# Altium footprint library 数码管.PcbLib: 57 footprints (part 4 of 4)
Each footprint in its own frame and in the unit in brackets; x right, y up, seen from the top. Pads: shape width x height; smd on the part's side, far side on the other; paste and mask are expansions set on the pad; w line width, h text height; cw(c..) or ccw(c..) is an arc to the next point about the centre after c.
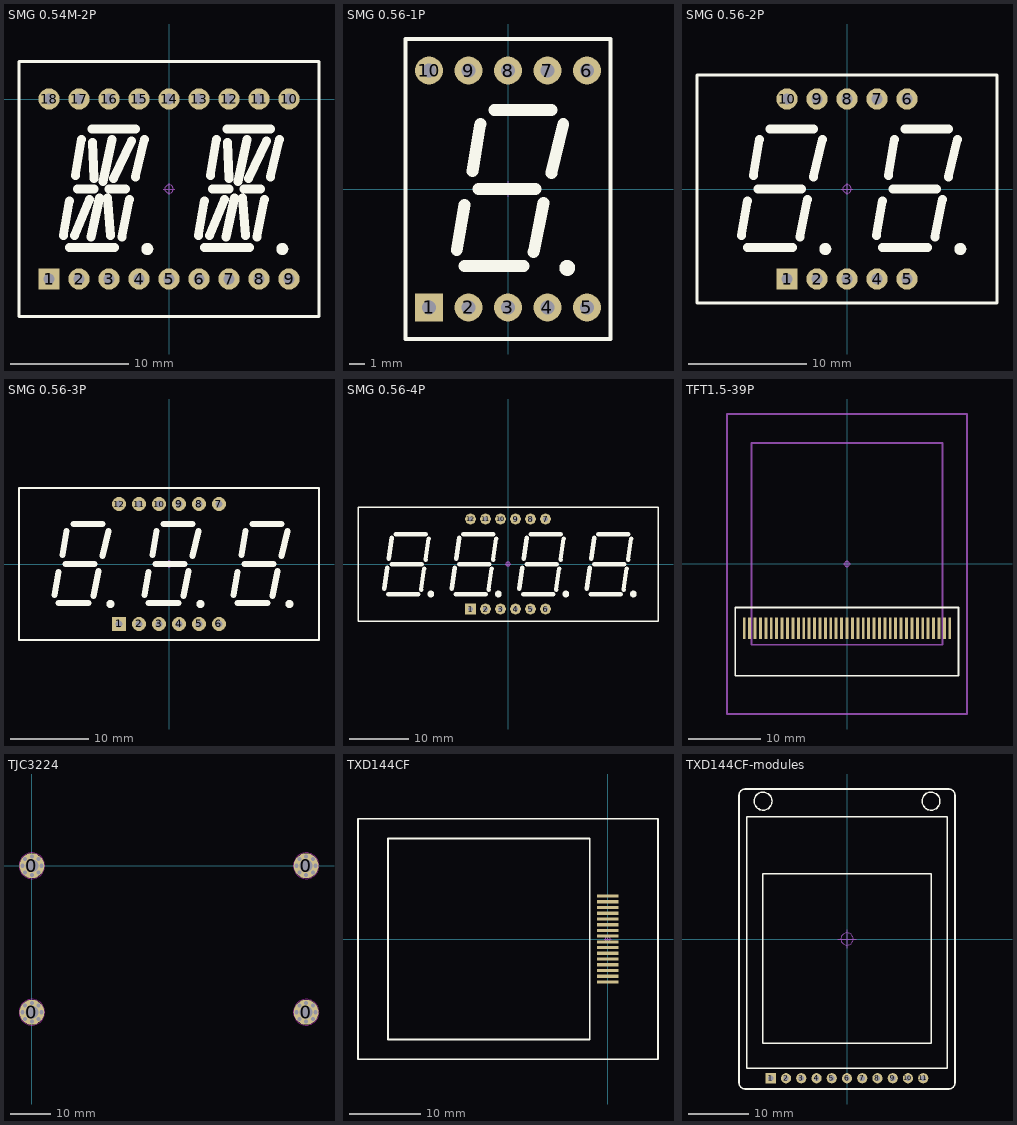
[diagram p3: the footprints below, top view; thin cyan lines are the x and y axes]

## SMG 0.54M-2P [mm] "25*21.2*8mm(长宽厚)"
pads (18):
  rect 1.8x1.8 hole 0.9: 1(-10.16,-15.24)
  round 1.8 hole 0.9: 2(-7.62,-15.24) 3(-5.08,-15.24) 4(-2.54,-15.24) 5(0,-15.24) 6(2.54,-15.24) 7(5.08,-15.24) 8(7.62,-15.24) 9(10.16,-15.24) 10(10.16,0)
  round 1.8 hole 0.9 unplated: 11(7.62,0) 12(5.08,0) 13(2.54,0) 14(0,0) 15(-2.54,0) 16(-5.08,0) 17(-7.62,0) 18(-10.16,0)
Top Overlay:
  circle w0.508: c9.588,-12.7 r0.254
  circle w0.508: c-1.841,-12.7 r0.254
  lines w0.254: -12.7,-18.415 12.7,-18.415 12.7,3.175 -12.7,3.175 -12.7,-18.415
  lines w0.762: -8.954,-11.557 -8.445,-8.636 ; -8.445,-12.573 -4.635,-12.573 ; -8.001,-11.557 -6.731,-8.509 ; -7.938,-6.477 -7.429,-3.429 ; -7.747,-7.62 -6.35,-7.62 ; -6.604,-11.684 -5.894,-8.371 ; -6.54,-2.54 -2.857,-2.54 ; -6.477,-3.683 -6.35,-6.731 ; -5.588,-6.985 -4.826,-3.429 ; -5.207,-8.382 -4.953,-11.557 ; -5.08,-7.62 -3.683,-7.62 ; -4.699,-6.731 -3.175,-3.556 ; -4,-11.684 -3.365,-8.509 ; -2.857,-6.604 -2.095,-3.429 ; 2.476,-11.557 2.984,-8.636 ; 2.984,-12.573 6.794,-12.573 ; 3.429,-11.557 4.699,-8.509 ; 3.492,-6.477 4,-3.429 ; 3.683,-7.62 5.08,-7.62 ; 4.826,-11.684 5.536,-8.371 ; 4.889,-2.54 8.572,-2.54 ; 4.953,-3.683 5.08,-6.731 ; 5.842,-6.985 6.604,-3.429 ; 6.223,-8.382 6.477,-11.557 ; 6.35,-7.62 7.747,-7.62 ; 6.731,-6.731 8.255,-3.556 ; 7.429,-11.684 8.064,-8.509 ; 8.572,-6.604 9.335,-3.429
Mechanical 15:
  circle w0.05: c0,-7.62 r0.35
  lines w0.05: -0.5,-7.62 0.5,-7.62 ; 0,-8.12 0,-7.12
3D body "SMG 0.54M-2P.STEP": height 8.2, standoff -3, extent -12.5,-18.22 12.5,2.98

## SMG 0.56-1P [mm] "12.7*19*8mm(长宽厚)"
pads (10):
  rect 1.8x1.8 hole 0.9: 1(-5.08,-7.62)
  round 1.8 hole 0.9: 2(-2.54,-7.62) 3(0,-7.62) 4(2.54,-7.62) 5(5.08,-7.62) 6(5.08,7.62) 7(2.54,7.62) 8(0,7.62) 9(-2.54,7.62) 10(-5.08,7.62)
Top Overlay:
  circle w0.508: c3.81,-5.08 r0.254
  lines w0.254: -6.604,-9.652 -6.604,9.652 6.604,9.652 6.604,-9.652 -6.604,-9.652
  lines w0.762: -3.302,-3.937 -2.794,-1.016 ; -2.794,-4.953 1.016,-4.953 ; -2.286,1.143 -1.778,4.191 ; -1.905,0 1.778,0 ; -0.889,5.08 2.794,5.08 ; 1.651,-4.064 2.286,-0.889 ; 2.794,1.016 3.556,4.191
Mechanical 15:
  circle w0.05: c0,0 r0.35
  lines w0.05: -0.5,0 0.5,0 ; 0,-0.5 0,0.5
3D body "SMG 0.56-1P.STEP": height 8, standoff -3.6, extent -6.3,-9.5 6.3,9.5

## SMG 0.56-2P [mm] "25*19*8mm(长宽厚)"
pads (10):
  rect 1.8x1.8 hole 0.9: 1(-5.08,-7.62)
  round 1.8 hole 0.9: 2(-2.54,-7.62) 3(0,-7.62) 4(2.54,-7.62) 5(5.08,-7.62) 6(5.08,7.62) 7(2.54,7.62) 8(0,7.62) 9(-2.54,7.62) 10(-5.08,7.62)
Top Overlay:
  circle w0.508: c9.588,-5.08 r0.254
  circle w0.508: c-1.841,-5.08 r0.254
  lines w0.254: -12.7,-9.652 12.7,-9.652 12.7,9.652 -12.7,9.652 -12.7,-9.652
  lines w0.762: -8.954,-3.937 -8.445,-1.016 ; -8.445,-4.953 -4.635,-4.953 ; -7.938,1.143 -7.429,4.191 ; -7.556,0 -3.873,0 ; -6.54,5.08 -2.857,5.08 ; -4,-4.064 -3.365,-0.889 ; -2.857,1.016 -2.095,4.191 ; 2.476,-3.937 2.984,-1.016 ; 2.984,-4.953 6.794,-4.953 ; 3.492,1.143 4,4.191 ; 3.873,0 7.556,0 ; 4.889,5.08 8.572,5.08 ; 7.429,-4.064 8.064,-0.889 ; 8.572,1.016 9.335,4.191
Mechanical 15:
  circle w0.05: c0,0 r0.35
  lines w0.05: -0.5,0 0.5,0 ; 0,-0.5 0,0.5
3D body "SMG 0.56-2P.STEP": height 8, standoff -3.6, extent -12.5,-9.5 12.5,9.5

## SMG 0.56-3P [mm] "37.6*19*8mm(长宽厚)"
pads (12):
  rect 1.8x1.8 hole 0.9: 1(-6.35,-7.62)
  round 1.8 hole 0.9: 2(-3.81,-7.62) 3(-1.27,-7.62) 4(1.27,-7.62) 5(3.81,-7.62) 6(6.35,-7.62) 7(6.35,7.62) 8(3.81,7.62) 9(1.27,7.62) 10(-1.27,7.62) 11(-3.81,7.62) 12(-6.35,7.62)
Top Overlay:
  circle w0.508: c4,-5.08 r0.254
  circle w0.508: c-7.429,-5.08 r0.254
  circle w0.508: c15.303,-5.08 r0.254
  lines w0.254: -19.05,-9.652 19.05,-9.652 19.05,9.652 -19.05,9.652 -19.05,-9.652
  lines w0.762: -14.541,-3.937 -14.034,-1.016 ; -14.034,-4.953 -10.223,-4.953 ; -13.525,1.143 -13.018,4.191 ; -13.144,0 -9.461,0 ; -12.128,5.08 -8.445,5.08 ; -9.588,-4.064 -8.954,-0.889 ; -8.445,1.016 -7.683,4.191 ; -3.111,-3.937 -2.603,-1.016 ; -2.603,-4.953 1.206,-4.953 ; -2.095,1.143 -1.587,4.191 ; -1.714,0 1.968,0 ; -0.699,5.08 2.984,5.08 ; 1.841,-4.064 2.476,-0.889 ; 2.984,1.016 3.746,4.191 ; 8.191,-3.937 8.7,-1.016 ; 8.7,-4.953 12.509,-4.953 ; 9.207,1.143 9.716,4.191 ; 9.588,0 13.271,0 ; 10.604,5.08 14.287,5.08 ; 13.144,-4.064 13.779,-0.889 ; 14.287,1.016 15.05,4.191
Mechanical 15:
  circle w0.05: c0,0 r0.35
  lines w0.05: -0.5,0 0.5,0 ; 0,-0.5 0,0.5
3D body "SMG 0.56-3P.STEP": height 8, standoff -3.6, extent -18.8,-9.5 18.8,9.5

## SMG 0.56-4P [mm] "4位0.56寸数码管，50.3*19mm"
pads (12):
  rect 1.8x1.8 hole 0.9: 1(-6.35,-7.62)
  round 1.8 hole 0.9: 2(-3.81,-7.62) 3(-1.27,-7.62) 4(1.27,-7.62) 5(3.81,-7.62) 6(6.35,-7.62) 7(6.35,7.62) 8(3.81,7.62) 9(1.27,7.62) 10(-1.27,7.62) 11(-3.81,7.62) 12(-6.35,7.62)
Top Overlay:
  circle w0.635: c-13.081,-5.08 r0.254
  circle w0.635: c-1.651,-5.08 r0.254
  circle w0.635: c9.779,-5.08 r0.254
  circle w0.635: c21.209,-5.08 r0.254
  lines w0.254: -25.4,-9.652 25.4,-9.652 25.4,9.652 -25.4,9.652 -25.4,-9.652
  lines w0.762: -20.955,-4.191 -20.447,-0.635 ; -20.32,-5.08 -15.24,-5.08 ; -20.193,0.889 -19.685,4.445 ; -19.685,0 -14.605,0 ; -19.05,5.08 -13.97,5.08 ; -14.732,-4.318 -14.224,-0.762 ; -13.97,0.762 -13.462,4.318 ; -9.525,-4.191 -9.017,-0.635 ; -8.89,-5.08 -3.81,-5.08 ; -8.763,0.889 -8.255,4.445 ; -8.255,0 -3.175,0 ; -7.62,5.08 -2.54,5.08 ; -3.302,-4.318 -2.794,-0.762 ; -2.54,0.762 -2.032,4.318 ; 1.905,-4.191 2.413,-0.635 ; 2.54,-5.08 7.62,-5.08 ; 2.667,0.889 3.175,4.445 ; 3.175,0 8.255,0 ; 3.81,5.08 8.89,5.08 ; 8.128,-4.318 8.636,-0.762 ; 8.89,0.762 9.398,4.318 ; 13.335,-4.191 13.843,-0.635 ; 13.97,-5.08 19.05,-5.08 ; 14.097,0.889 14.605,4.445 ; 14.605,0 19.685,0 ; 15.24,5.08 20.32,5.08 ; 19.558,-4.318 20.066,-0.762 ; 20.32,0.762 20.828,4.318
Mechanical 15:
  circle w0.05: c0,0 r0.35
  lines w0.05: -0.5,0 0.5,0 ; 0,-0.5 0,0.5
3D body "SMG 0.56-4P.STEP": height 8, standoff -3.6, extent -25.15,-9.5 25.15,9.5

## TFT1.5-39P [mm] "长41.6mm，宽33.4mm，厚2.7mm，脚距0.75mm"
pads (39):
  rect 0.4x3 smd: 1(-14.25,-8.89) 2(-13.5,-8.89) 3(-12.75,-8.89) 4(-12,-8.89) 5(-11.25,-8.89) 6(-10.5,-8.89) 7(-9.75,-8.89) 8(-9,-8.89) 9(-8.25,-8.89) 10(-7.5,-8.89) 11(-6.75,-8.89) 12(-6,-8.89) 13(-5.25,-8.89) 14(-4.5,-8.89) 15(-3.75,-8.89) 16(-3,-8.89) 17(-2.25,-8.89) 18(-1.5,-8.89) 19(-0.75,-8.89) 20(0,-8.89) 21(0.75,-8.89) 22(1.5,-8.89) 23(2.25,-8.89) 24(3,-8.89) 25(3.75,-8.89) 26(4.5,-8.89) 27(5.25,-8.89) 28(6,-8.89) 29(6.75,-8.89) 30(7.5,-8.89) 31(8.25,-8.89) 32(9,-8.89) 33(9.75,-8.89) 34(10.5,-8.89) 35(11.25,-8.89) 36(12,-8.89) 37(12.75,-8.89) 38(13.5,-8.89) 39(14.25,-8.89)
Top Overlay:
  lines w0.254: -15.495,-15.5 15.468,-15.5 15.468,-6.05 -15.495,-6.05 -15.495,-15.5
Mechanical 15:
  circle w0.05: c0,0 r0.35
  lines w0.05: -0.5,0 0.5,0 ; 0,-0.5 0,0.5
  lines w0.254: -16.65,-20.8 16.65,-20.8 16.65,20.8 -16.65,20.8 -16.65,-20.8 ; -13.25,-11.2 -13.25,7.7 -13.25,16.8 13.25,16.8 13.25,-11.2 -13.25,-11.2
3D body "TFT1.5-39P.STEP": height 6.65, standoff 0, extent -16.65,-20.884 16.65,20.85

## TJC3224 [mm]
pads (36):
  round 1 hole 1: 0(-2.35,-36.49) 0(-2.35,0) 0(-1.662,-38.152) 0(-1.662,-34.828) 0(-1.662,-1.662) 0(-1.662,1.662) 0(0,-38.84) 0(0,-34.14) 0(0,-2.35) 0(0,2.35) 0(1.662,-38.152) 0(1.662,-34.828) 0(1.662,-1.662) 0(1.662,1.662) 0(2.35,-36.49) 0(2.35,0) 0(65.97,-36.49) 0(65.97,0) 0(66.658,-38.152) 0(66.658,-34.828) 0(66.658,-1.662) 0(66.658,1.662) 0(68.32,-38.84) 0(68.32,-34.14) 0(68.32,-2.35) 0(68.32,2.35) 0(69.982,-38.152) 0(69.982,-34.828) 0(69.982,-1.662) 0(69.982,1.662) 0(70.67,-36.49) 0(70.67,0)
  round 6.2 hole 3.2: 0(0,-36.49) 0(0,0) 0(68.32,-36.49) 0(68.32,0)
Keep-Out Layer:
  circle w0.254: c0,0 r3.2
  circle w0.254: c68.32,0 r3.2
  circle w0.254: c68.32,-36.49 r3.2
  circle w0.254: c0,-36.49 r3.2
Mechanical 15:
  circle w0.05: c0,0 r0.35
  lines w0.05: -0.5,0 0.5,0 ; 0,-0.5 0,0.5
3D body "TJC3224.stp": height 15.8, standoff 0, extent -3.023,-39.573 71.377,3.147

## TXD144CF [mm] "16Pin, 1.44寸，128*128"
pads (16):
  rect 3x0.45 smd: 1(0,6) 2(0,5.2) 3(0,4.4) 4(0,3.6) 5(0,2.8) 6(0,2) 7(0,1.2) 8(0,0.4) 9(0,-0.4) 10(0,-1.2) 11(0,-2) 12(0,-2.8) 13(0,-3.6) 14(0,-4.4) 15(0,-5.2) 16(0,-6)
Top Overlay:
  lines w0.254: -34.917,-16.8 -34.917,16.8 7.023,16.8 7.023,-16.8 -34.917,-16.8 ; -30.717,-14.05 -2.517,-14.05 -2.517,14.05 -30.717,14.05 -30.717,-14.05
Mechanical 15:
  circle w0.05: c0,0 r0.35
  lines w0.05: -0.5,0 0.5,0 ; 0,-0.5 0,0.5
3D body "TXD144CF.STEP": height 2.8, standoff 0.05, extent -34.917,-16.675 7.023,16.675

## TXD144CF-modules [mm] "1.44寸TFT模块"
pads (11):
  rect 1.7x1.7 hole 0.9: 1(-12.7,-23.214)
  round 1.7 hole 0.9: 2(-10.16,-23.214) 3(-7.62,-23.214) 4(-5.08,-23.214) 5(-2.54,-23.214) 6(0,-23.214) 7(2.54,-23.214) 8(5.08,-23.214) 9(7.62,-23.214) 10(10.16,-23.214) 11(12.7,-23.214)
Top Overlay:
  circle w0.25: c-14,22.968 r1.5
  circle w0.25: c14,22.968 r1.5
  lines w0.254: -18,-24 ccw(c-17,-24) -17,-25 17,-25 ccw(c17,-24) 18,-24 18,24 ccw(c17,24) 17,25 -17,25 ccw(c-17,24) -18,24 -18,-24 ; -16.675,-21.546 -16.675,20.394 16.675,20.394 16.675,-21.546 -16.675,-21.546 ; -14.05,-17.346 -14.05,10.854 14.05,10.854 14.05,-17.346 -14.05,-17.346
Mechanical 15:
  circle w0.1: c0,0 r1.016
  lines w0.1: -1.524,0 1.524,0 ; 0,-1.524 0,1.524
3D body "TXD144CF-modules.STEP": height 6.65, standoff -5.98, extent -18,-25 18,25